# Altium footprint library SOT.PcbLib: 13 footprints
Each footprint in its own frame and in the unit in brackets; x right, y up, seen from the top. Pads: shape width x height; smd on the part's side, far side on the other; paste and mask are expansions set on the pad; w line width, h text height; cw(c..) or ccw(c..) is an arc to the next point about the centre after c.
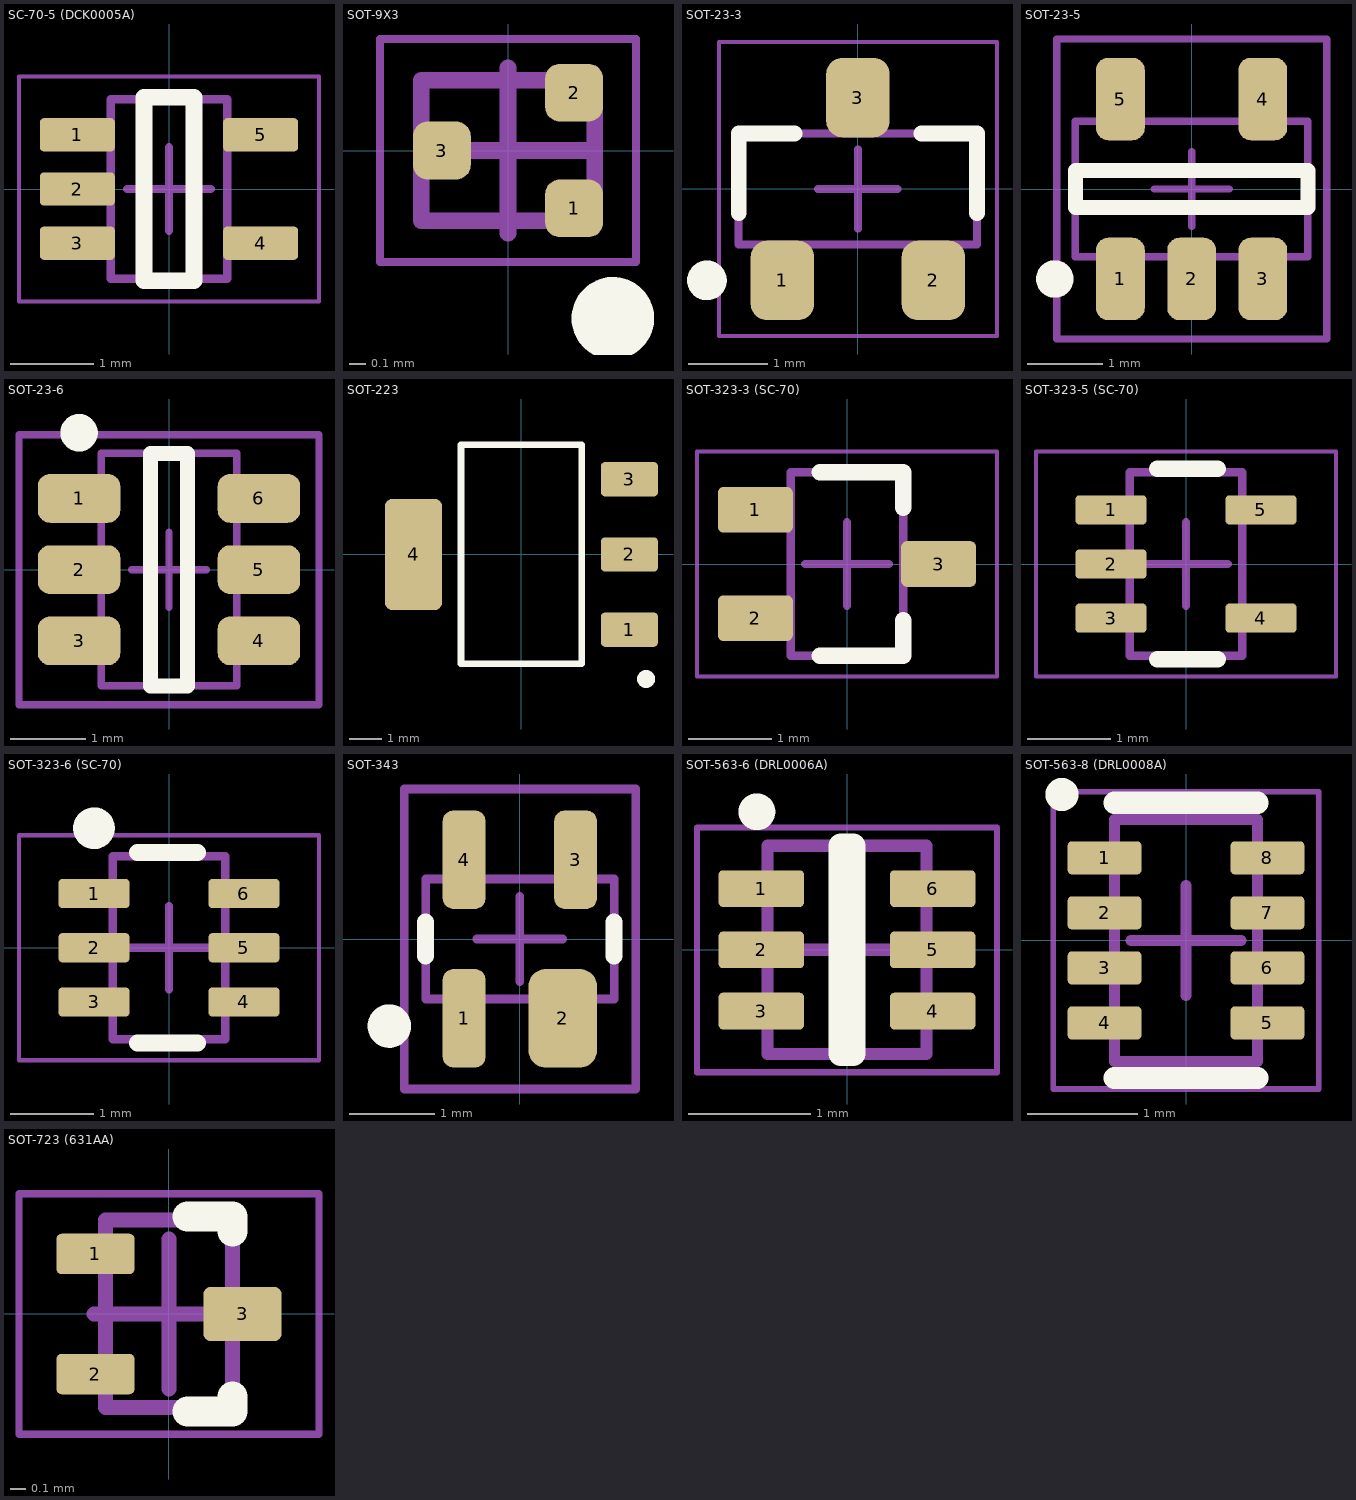
[diagram p0: the footprints below, top view; thin cyan lines are the x and y axes]

## SC-70-5 (DCK0005A) [mm] "SC-70, 5-Leads, Body 2.00x2.10mm, Pitch 0.65mm, IPC Medium Density"
height 1.1
pads (5):
  rrect25% 0.9x0.4 smd mask+0.05: 1(-1.1,0.65) 2(-1.1,0) 3(-1.1,-0.65) 4(1.1,-0.65) 5(1.1,0.65)
Top Overlay:
  lines w0.2: -0.3,-1.1 -0.3,1.1 0.3,1.1 0.3,-1.1 -0.3,-1.1
Mechanical 13:
  lines w0.1: -0.7,-1.075 0.7,-1.075 0.7,1.075 -0.7,1.075 -0.7,-1.075
Mechanical 15:
  lines w0.05: -1.8,-1.35 -1.8,1.35 1.8,1.35 1.8,-1.35 -1.8,-1.35
  lines w0.1: -0.5,0 0.5,0 ; 0,-0.5 0,0.5
3D body "SC-70-5 (DCK0005A).step": height 1.1, standoff 0, extent -1.2,-1.075 1.2,1.075

## SOT-9X3 [mm] "1mm x 1mm"
height 0.5
pads (3):
  rrect50% 0.35x0.35 smd mask+0.05: 1(0.4,-0.35) 2(0.4,0.35) 3(-0.4,0)
Top Overlay:
  circle w0.25: c0.635,-1.016 r0.125
Mechanical 13:
  lines w0.1: -0.525,-0.425 0.525,-0.425 0.525,0.425 -0.525,0.425 -0.525,-0.425
Mechanical 15:
  lines w0.05: -0.775,-0.675 0.775,-0.675 0.775,0.675 -0.775,0.675 -0.775,-0.675
  lines w0.1: -0.5,0 0.5,0 ; 0,-0.5 0,0.5
3D body "SOT-9X3.step": height 0.5, standoff 0, extent -0.525,-0.45 0.525,0.45

## SOT-23-3 [mm] "SOT23, 3-Leads, Body 2,90x2,30mm, Pitch 0,95mm, IPC Medium Density"
height 1.1
pads (3):
  rrect50% 0.8x1 smd mask+0.05: 1(-0.95,-1.15) 2(0.95,-1.15) 3(0,1.15)
Top Overlay:
  circle w0.25: c-1.9,-1.15 r0.125
  lines w0.2: -1.5,-0.3 -1.5,0.7 -0.8,0.7 ; 0.8,0.7 1.5,0.7 1.5,-0.3
Mechanical 13:
  lines w0.1: -1.5,-0.7 1.5,-0.7 1.5,0.7 -1.5,0.7 -1.5,-0.7
Mechanical 15:
  lines w0.05: -1.75,-1.85 1.75,-1.85 1.75,1.85 -1.75,1.85 -1.75,-1.85
  lines w0.1: -0.5,0 0.5,0 ; 0,-0.5 0,0.5
3D body "SOT-23-3_1.step": height 1.1, standoff 0, extent -1.5,-1.25 1.5,1.25

## SOT-23-5 [mm] "SOT23, 5-Leads, Body 2.9x1.6mm, Pitch 0.95mm, Lead Span 2.8mm, IPC Medium Density"
height 1.45
pads (5):
  rrect50% 0.65x1.1 smd mask+0.05: 1(-0.95,-1.2) 2(0,-1.2) 3(0.95,-1.2) 4(0.95,1.2) 5(-0.95,1.2)
Top Overlay:
  circle w0.25: c-1.825,-1.2 r0.125
  lines w0.2: -1.55,-0.25 1.55,-0.25 1.55,0.25 -1.55,0.25 -1.55,-0.25
Mechanical 13:
  lines w0.1: -1.55,-0.9 -1.55,0.9 1.55,0.9 1.55,-0.9 -1.55,-0.9
Mechanical 15:
  lines w0.1: -0.5,0 0.5,0 ; 0,-0.5 0,0.5 ; -1.8,-2 -1.8,2 1.8,2 1.8,-2 -1.8,-2
3D body "SOT-23-5.STEP": height 1.1, standoff 0, extent -1.5,-1.443 1.5,1.397

## SOT-23-6 [mm] "SOT23, 6-Leads, Body 2.9x1.6mm, Pitch 0.95mm, Lead Span 2.8mm, IPC Medium Density"
height 1.45
pads (6):
  rrect50% 1.1x0.65 smd mask+0.05: 1(-1.2,0.95) 2(-1.2,0) 3(-1.2,-0.95) 4(1.2,-0.95) 5(1.2,0) 6(1.2,0.95)
Top Overlay:
  circle w0.25: c-1.2,1.825 r0.125
  lines w0.2: -0.25,-1.55 0.25,-1.55 0.25,1.55 -0.25,1.55 -0.25,-1.55
Mechanical 13:
  lines w0.1: -0.9,-1.55 -0.9,1.55 0.9,1.55 0.9,-1.55 -0.9,-1.55
Mechanical 15:
  lines w0.1: -0.5,0 0.5,0 ; 0,-0.5 0,0.5 ; -2,-1.8 -2,1.8 2,1.8 2,-1.8 -2,-1.8
3D body "User Library-SOT-23-6-4.STEP": height 1.45, standoff 0, extent -1.535,-1.55 1.535,1.55

## SOT-223 [mm]
pads (4):
  rrect25% 1.75x1.05 smd: 1(3.3,-2.3) 2(3.3,0) 3(3.3,2.3)
  rrect25% 1.75x3.4 smd: 4(-3.3,0)
Top Overlay:
  circle w0.3: c3.81,-3.81 r0.125
  lines w0.2: -1.85,-3.35 1.85,-3.35 1.85,3.35 -1.85,3.35 -1.85,-3.35
3D body "sot-223.step": height 1.6, standoff -0.1, extent -3.462,-3.25 3.429,3.25

## SOT-323-3 (SC-70) [mm] "SC-70, 3-Leads, Body 2,00x2,10mm, Pitch 0,65mm, IPC Medium Density"
height 1.1
pads (3):
  rrect25% 0.9x0.55 smd mask+0.05: 1(-1.1,0.65) 2(-1.1,-0.65) 3(1.1,0)
Top Overlay:
  lines w0.2: -0.325,-1.1 0.675,-1.1 0.675,-0.675 ; -0.325,1.1 0.675,1.1 0.675,0.675
Mechanical 13:
  lines w0.1: -0.675,-1.1 -0.675,1.1 0.675,1.1 0.675,-1.1 -0.675,-1.1
Mechanical 15:
  lines w0.05: -1.8,-1.35 -1.8,1.35 1.8,1.35 1.8,-1.35 -1.8,-1.35
  lines w0.1: -0.5,0 0.5,0 ; 0,-0.5 0,0.5
3D body "SOT323-3(SC-70).step": height 1.1, standoff 0, extent -1.2,-1.1 1.2,1.1

## SOT-323-5 (SC-70) [mm] "SC5 Package  5-Lead Plastic SC70"
height 1
pads (5):
  rrect25% 0.85x0.35 smd mask+0.05: 1(-0.9,0.65) 2(-0.9,0) 3(-0.9,-0.65) 4(0.9,-0.65) 5(0.9,0.65)
Top Overlay:
  lines w0.2: -0.346,-1.143 0.381,-1.143 ; -0.346,1.143 0.381,1.143
Mechanical 13:
  lines w0.1: -0.675,-1.1 0.675,-1.1 0.675,1.1 -0.675,1.1 -0.675,-1.1
Mechanical 15:
  lines w0.05: -1.8,-1.35 1.8,-1.35 1.8,1.35 -1.8,1.35 -1.8,-1.35
  lines w0.1: -0.5,0 0.5,0 ; 0,-0.5 0,0.5
3D body "User Library-SC70-5-1.step": height 0.95, standoff 0, extent -1.05,-1 1.05,1

## SOT-323-6 (SC-70) [mm] "SC6 Package 6-Lead Plastic SC70"
height 1
pads (6):
  rrect25% 0.85x0.35 smd mask+0.05: 1(-0.9,0.65) 2(-0.9,0) 3(-0.9,-0.65) 4(0.9,-0.65) 5(0.9,0) 6(0.9,0.65)
Top Overlay:
  circle w0.25: c-0.9,1.435 r0.125
  lines w0.2: -0.381,-1.143 0.346,-1.143 ; -0.381,1.143 0.346,1.143
Mechanical 13:
  lines w0.1: -0.675,-1.1 -0.675,1.1 0.675,1.1 0.675,-1.1 -0.675,-1.1
Mechanical 15:
  lines w0.05: -1.8,-1.35 -1.8,1.35 1.8,1.35 1.8,-1.35 -1.8,-1.35
  lines w0.1: -0.5,0 0.5,0 ; 0,-0.5 0,0.5
3D body "User Library-SC70-6.step": height 0.92, standoff -0.03, extent -1.05,-1.016 1.05,0.984

## SOT-343 [mm] "SOT343, 4-Leads, Body 2x1.3 mm, Pitch 1.3mm, Lead Span 2.1mm, IPC Medium Density"
height 1
pads (4):
  rrect50% 0.5x1.15 smd mask+0.05: 1(-0.65,-0.925) 3(0.65,0.925) 4(-0.65,0.925)
  rrect50% 0.8x1.15 smd mask+0.05: 2(0.5,-0.925)
Top Overlay:
  circle w0.3: c-1.524,-1.016 r0.103
  lines w0.2: -1.1,-0.2 -1.1,0.2 ; 1.1,-0.2 1.1,0.2
Mechanical 13:
  lines w0.1: -1.1,-0.7 1.1,-0.7 1.1,0.7 -1.1,0.7 -1.1,-0.7
Mechanical 15:
  lines w0.1: -0.5,0 0.5,0 ; 0,-0.5 0,0.5 ; -1.35,-1.75 1.35,-1.75 1.35,1.75 -1.35,1.75 -1.35,-1.75
3D body "User Library-SOT343-1.step": height 1, standoff 0, extent -1.1,-1.1 1.1,1.1

## SOT-563-6 (DRL0006A) [mm] "SOT563, 6-Leads, Body 1.2x1.6mm, Pitch 0.50mm, IPC Medium Density"
height 0.6
pads (6):
  rrect25% 0.7x0.3 smd mask+0.05: 1(-0.7,0.5) 2(-0.7,0) 3(-0.7,-0.5) 4(0.7,-0.5) 5(0.7,0) 6(0.7,0.5)
Top Overlay:
  circle w0.2: c-0.736,1.127 r0.05
  lines w0.2: -0.05,-0.85 -0.05,0.85 0.05,0.85 0.05,-0.85 -0.05,-0.85
Mechanical 13:
  lines w0.1: -0.65,-0.85 0.65,-0.85 0.65,0.85 -0.65,0.85 -0.65,-0.85
Mechanical 15:
  lines w0.05: -1.225,-1 1.225,-1 1.225,1 -1.225,1 -1.225,-1
  lines w0.1: -0.5,0 0.5,0 ; 0,-0.5 0,0.5
3D body "SOT563-6 (DRL0006A).step": height 0.6, standoff 0, extent -0.8,-0.848 0.8,0.848

## SOT-563-8 (DRL0008A) [mm] "SOT-563, 8-Leads, Body 2.10x1.20mm, Pitch 0.50mm, IPC Medium Density"
height 0.6
pads (8):
  rrect25% 0.67x0.3 smd mask+0.05: 1(-0.74,0.75) 2(-0.74,0.25) 3(-0.74,-0.25) 4(-0.74,-0.75) 5(0.74,-0.75) 6(0.74,-0.25) 7(0.74,0.25) 8(0.74,0.75)
Top Overlay:
  circle w0.2: c-1.127,1.325 r0.05
  lines w0.2: -0.65,-1.25 0.65,-1.25 ; -0.65,1.25 0.65,1.25
Mechanical 13:
  lines w0.1: -0.65,-1.1 -0.65,1.1 0.65,1.1 0.65,-1.1 -0.65,-1.1
Mechanical 15:
  lines w0.05: -1.205,-1.35 -1.205,1.35 1.205,1.35 1.205,-1.35 -1.205,-1.35
  lines w0.1: -0.5,0 0.5,0 ; 0,-0.5 0,0.5
3D body "SOT583-8.step": height 0.6, standoff 0, extent -0.7,-1.1 0.7,1.1

## SOT-723 (631AA) [mm] "SOT-723, 3-Leads, Body 1.20x0.8x0.5mm, Pitch 0.4mm, IPC Medium Density"
height 0.55
pads (3):
  rrect25% 0.52x0.27 smd mask+0.05: 1(-0.49,0.4) 2(-0.49,-0.4)
  rrect25% 0.52x0.36 smd paste+0 mask+0.05: 3(0.49,0)
Top Overlay:
  lines w0.2: 0.125,-0.65 0.425,-0.65 0.425,-0.55 ; 0.125,0.65 0.425,0.65 0.425,0.55
Mechanical 13:
  lines w0.1: -0.425,-0.625 0.425,-0.625 0.425,0.625 -0.425,0.625 -0.425,-0.625
Mechanical 15:
  lines w0.05: -1,-0.8 1,-0.8 1,0.8 -1,0.8 -1,-0.8
  lines w0.1: -0.5,0 0.5,0 ; 0,-0.5 0,0.5
3D body "SOT-723 (631AA).step": height 0.55, standoff 0, extent -0.6,-0.623 0.6,0.623